# EAGLE library part TPS61088RHLR (library TPS61088RHLR)
10-A Fully-Integrated Synchronous Boost Converter Source: Datasheet <http://www.ti.com/lit/gpn/tps61088>
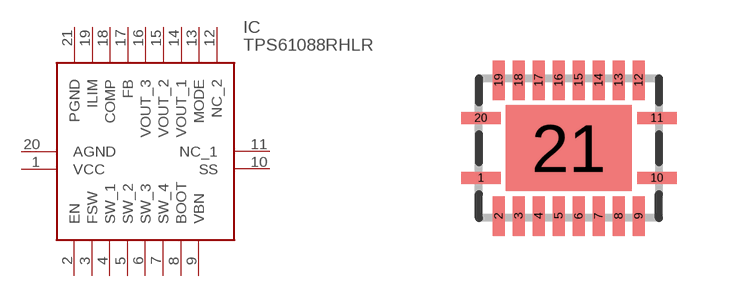
[diagram p0: symbol with the pads of RHL(R-PVQFN-N20)_1; footprint RHL(R-PVQFN-N20)_1]

Designator prefix IC

## TPS61088RHLR (Arrow_Part_Number: TPS61088RHLR; Arrow_Price-Stock: https://www.arrow.com/en/products/tps61088rhlr/texas-instruments?utm_currency=USD&region=nac; Description: 10-A Fully-Integrated Synchronous Boost Converter; Height: mm; Manufacturer_Name: Texas Instruments; Manufacturer_Part_Number: TPS61088RHLR; Mouser_Part_Number: 595-TPS61088RHLR; Mouser_Price-Stock: https://www.mouser.co.uk/ProductDetail/Texas-Instruments/TPS61088RHLR?qs=MiqG6Kq1qKNjgpnslrNKug%3D%3D)  [RHL(R-PVQFN-N20)_1]
1  VCC
2  EN
3  FSW
4  SW_1
5  SW_2
6  SW_3
7  SW_4
8  BOOT
9  VBN
10  SS
11  NC_1
12  NC_2
13  MODE
14  VOUT_1
15  VOUT_2
16  VOUT_3
17  FB
18  COMP
19  ILIM
20  AGND
21  PGND

## Footprint RHL(R-PVQFN-N20)_1 (pad centres in mm)
RHL(R-PVQFN-N20)_1
smd 0.99 x 0.3: 1 -2.2,-0.75; 10 2.2,-0.75; 11 2.2,0.75; 20 -2.2,0.75
smd 0.3 x 0.99: 2 -1.75,-1.7; 3 -1.25,-1.7; 4 -0.75,-1.7; 5 -0.25,-1.7; 6 0.25,-1.7; 7 0.75,-1.7; 8 1.25,-1.7; 9 1.75,-1.7; 12 1.75,1.7; 13 1.25,1.7; 14 0.75,1.7; 15 0.25,1.7; 16 -0.25,1.7; 17 -0.75,1.7; 18 -1.25,1.7; 19 -1.75,1.7
smd 3.15 x 2.15: 21 0,0